# EAGLE library part FPC-06WAY (library pimoroni-fpc)
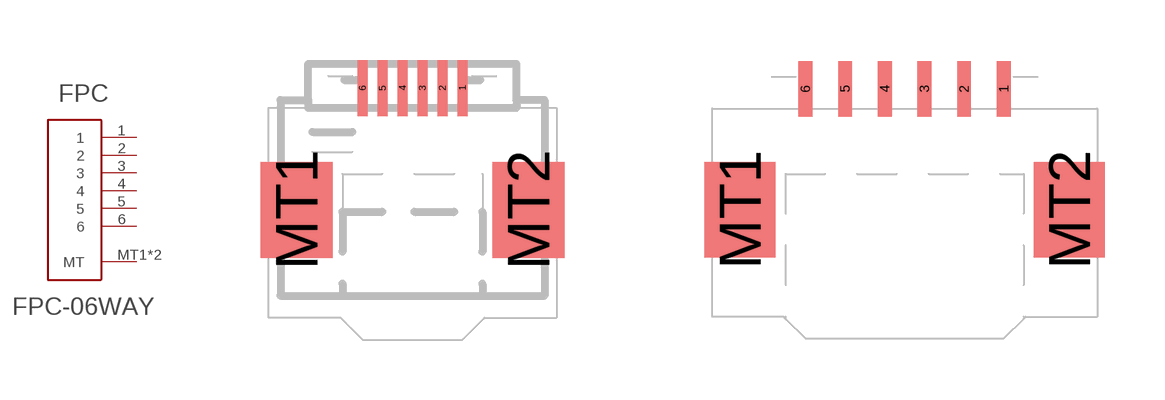
[diagram p1: symbol with the pads of FPC-0.5MM-06WAY; footprints FPC-0.5MM-06WAY, FPC-1.0MM-06WAY]

Designator prefix FPC

## FPC-06WAY0.5  [FPC-0.5MM-06WAY]
1  1
2  2
3  3
4  4
5  5
6  6
MT1  MT
MT2  MT

## FPC-06WAY1.0  [FPC-1.0MM-06WAY]
Pads as for FPC-0.5MM-06WAY

## Footprint FPC-0.5MM-06WAY (pad centres in mm)
smd 0.25 x 1.4: 1 1.25,0.7; 2 0.75,0.7; 3 0.25,0.7; 4 -0.25,0.7; 5 -0.75,0.7; 6 -1.25,0.7
smd 1.8 x 2.4: MT1 -2.9,-2.35; MT2 2.9,-2.35

## Footprint FPC-1.0MM-06WAY (pad centres in mm)
smd 0.35 x 1.4: 1 2.5,0.7; 2 1.5,0.7; 3 0.5,0.7; 4 -0.5,0.7; 5 -1.5,0.7; 6 -2.5,0.7
smd 1.8 x 2.4: MT1 -4.15,-2.35; MT2 4.15,-2.35